# Altium footprint library AJ066-30-007-02_Temp and Humidity sensor.PcbLib: 11 footprints
Each footprint in its own frame and in the unit in brackets; x right, y up, seen from the top. Pads: shape width x height; smd on the part's side, far side on the other; paste and mask are expansions set on the pad; w line width, h text height; cw(c..) or ccw(c..) is an arc to the next point about the centre after c.
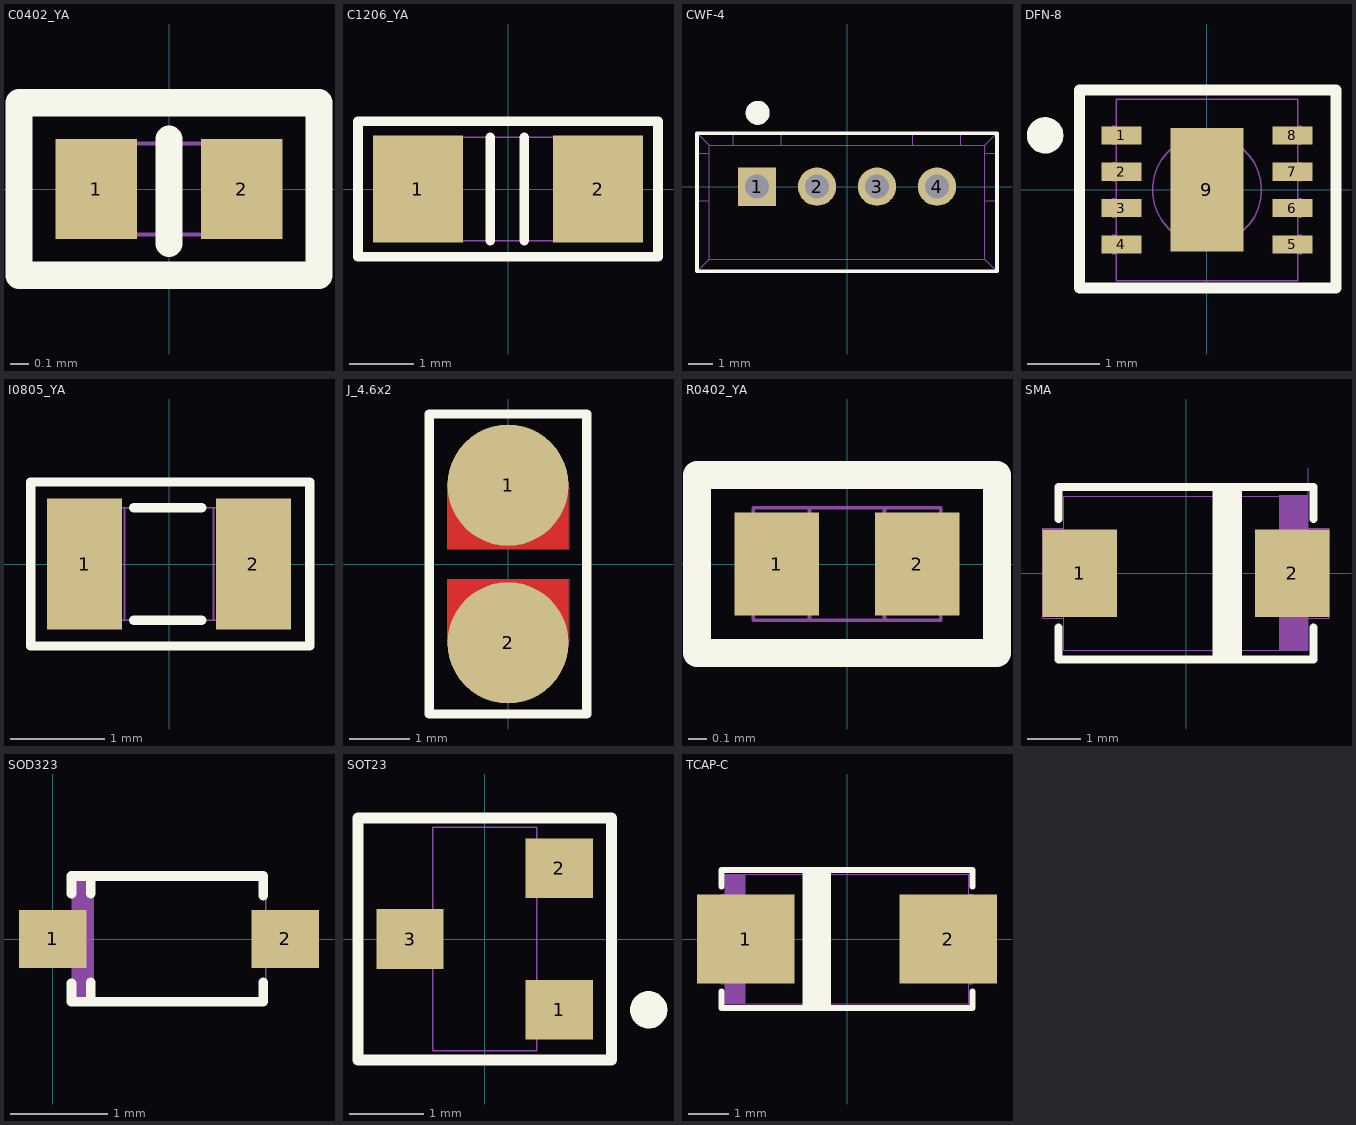
[diagram p0: the footprints below, top view; thin cyan lines are the x and y axes]

## C0402_YA [mm] "C0402_YA"
pads (2):
  rect 0.45x0.55 smd: 1(-0.4,0) 2(0.4,0)
Top Overlay:
  lines w0.15: 0,-0.3 0,0.275 ; -0.825,-0.475 -0.825,0.475 0.825,0.475 0.825,-0.475 -0.825,-0.475
Top Assembly:
  lines w0.02: -0.3,-0.25 -0.3,0.25 ; 0.3,-0.25 0.3,0.25 ; -0.5,-0.25 0.5,-0.25 0.5,0.25 -0.5,0.25 -0.5,-0.25
  text "'.Designator'" at -0.577,-0.259 h0.25
Mechanical 14:
  text "1" at -0.375,-0.08 h0.2
  text "2" at 0.375,-0.08 h0.2
3D body "User Library-SMD CAPACITOR0402.STEP": height 0.5, standoff 0, extent -0.5,-0.25 0.5,0.25

## C1206_YA [mil] "SC1206"
pads (2):
  rect 55x65 smd: 1(-55,0) 2(55,0)
Top Overlay:
  lines w5.91: -10.83,-31.5 -10.83,31.5 ; 9.84,-31.5 9.84,31.5 ; -91.54,-41.34 91.54,-41.34 91.54,41.34 -91.54,41.34 -91.54,-41.34
Top Assembly:
  lines w0.79: -31.5,-31.5 -31.5,31.5 ; 31.5,-31.5 31.5,31.5 ; -63.97,-31.49 62.02,-31.49 62.02,31.5 -63.97,31.5 -63.97,-31.49
  text "'.Designator'" at 64.27,14.04 h19.68
3D body "User Library-SMD CAPACITOR1206.STEP": height 31.1, standoff 0.39, extent -63.97,-31.49 62.02,31.5

## CWF-4 [mm]
height 5.7
pads (4):
  rect 1.6x1.6 hole 1: 1(-3.75,0)
  round 1.6 hole 1: 2(-1.25,0) 3(1.25,0) 4(3.75,0)
Top Overlay:
  circle w0.5: c-3.725,3.075 r0.25
  lines w0.15: -6.25,-3.525 6.25,-3.525 6.25,2.225 -6.25,2.225 -6.25,-3.525
Top Assembly:
  lines w0: -3.75,2.226 -3.124,2.226 ; 3.124,2.226 3.749,2.226
  lines w0.02: -6.251,-3.524 -6.25,-3.524 ; -6.251,2.226 -6.25,2.226 ; -6.25,-3.525 -6.25,2.225 ; -6.249,-0.6 -5.749,-0.6 ; -6.249,1.4 -5.749,1.4 ; -4.75,1.725 -4.75,2.225 ; -3.75,2.226 -3.124,2.226 ; -2.75,1.725 -2.75,2.225 ; 2.749,1.725 2.749,2.225 ; 3.124,2.226 3.749,2.226 ; 4.749,1.725 4.749,2.225 ; 5.749,-0.6 6.249,-0.6 ; 5.749,1.4 6.249,1.4 ; 6.249,-3.525 6.249,2.225 ; -6.25,-3.524 6.25,-3.524 ; -6.25,-3.524 -6.25,2.226 ; -6.25,-3.524 -5.75,-3.024 ; -6.25,-3.524 -6.25,2.226 ; -6.25,2.225 6.249,2.225 ; -6.25,2.225 -5.75,1.725 ; -5.75,-3.024 -5.75,1.725 ; -5.75,-3.024 5.749,-3.024 ; -5.75,1.725 -5.749,1.726 5.749,1.726 5.749,1.725 ; 5.749,-3.024 5.749,1.725 ; 5.749,-3.024 6.249,-3.524 ; 5.749,1.725 6.249,2.225 ; 6.25,-3.524 6.25,2.226 ; 6.249,-3.524 6.249,2.226 ; 6.249,-3.524 6.25,-3.524 ; 6.249,-3.524 6.249,2.226 ; -4.075,-0.326 -3.425,-0.326 -3.425,0.324 -4.075,0.324 -4.075,-0.326 ; -1.575,-0.326 -0.925,-0.326 -0.925,0.324 -1.575,0.324 -1.575,-0.326 ; 0.925,-0.326 1.575,-0.326 1.575,0.324 0.925,0.324 0.925,-0.326 ; 3.424,-0.326 3.424,0.324 4.074,0.324 4.074,-0.326 3.424,-0.326 ; 6.249,2.226 6.25,2.226
  text ".Designator" at -6.525,-1.35 h1
  text "1" at -5,-0.5 h1
3D body "DS1069-4 CWF-4.STEP": height 7, standoff -3.5, extent -6.25,-3.525 6.25,2.225

## DFN-8 [mm] "TSOP, 8-Leads, Body 3,1x3,1mm (max), Pitch 0,65mm, IPC High Density"
height 1.1
pads (9):
  rect 0.55x0.25 smd mask+0.075: 1(-1.175,0.75) 2(-1.175,0.25) 3(-1.175,-0.25) 4(-1.175,-0.75) 5(1.175,-0.75) 6(1.175,-0.25) 7(1.175,0.25) 8(1.175,0.75)
  rect 1x1.7 smd: 9(0,0)
Top Overlay:
  circle w0.25: c-2.225,0.75 r0.125
  lines w0.15: -1.75,-1.35 1.775,-1.35 1.775,1.375 -1.75,1.375 -1.75,-1.35
Top Assembly:
  circle w0.02: c0,0 r0.75
  lines w0.02: -1.25,-0.875 -1.3,-0.875 -1.3,-0.625 ; -1.25,-0.375 -1.3,-0.375 -1.3,-0.125 ; -1.25,0.125 -1.3,0.125 -1.3,0.375 ; -1.25,0.625 -1.3,0.625 -1.3,0.875 ; 1.25,-0.875 1.3,-0.875 1.3,-0.625 ; 1.25,-0.375 1.3,-0.375 1.3,-0.125 ; 1.25,0.125 1.3,0.125 1.3,0.375 ; 1.25,0.625 1.3,0.625 1.3,0.875 ; -1.3,-0.625 -1.25,-0.625 -1.3,-0.625 ; -1.3,-0.125 -1.25,-0.125 -1.3,-0.125 ; -1.3,0.375 -1.25,0.375 ; -1.3,0.375 -1.25,0.375 ; -1.3,0.375 -1.25,0.375 ; -1.3,0.875 -1.25,0.875 -1.3,0.875 ; 1.25,0.375 1.3,0.375 ; 1.25,0.375 1.3,0.375 ; 1.25,0.375 1.3,0.375 ; 1.3,-0.625 1.25,-0.625 1.3,-0.625 ; 1.3,-0.125 1.25,-0.125 1.3,-0.125 ; 1.3,0.875 1.25,0.875 1.3,0.875 ; -1.25,-1.25 -1.25,1.25 1.25,1.25 1.25,-1.25 -1.25,-1.25
  text "'.Designator'" at 1.666,0.546 h0.5
  text "1" at -1.63,0.62 h0.25
3D body "SHT3x.STEP": height 0.9, standoff -0.01, extent -1.25,-1.25 1.27,1.25

## I0805_YA [mm] "I0805_YA"
pads (2):
  rect 0.8x1.4 smd: 1(-0.9,0) 2(0.9,0)
Top Overlay:
  lines w0.1: -0.375,-0.6 0.35,-0.6 ; -0.375,0.6 0.35,0.6 ; -1.475,-0.875 1.5,-0.875 1.5,0.875 -1.475,0.875 -1.475,-0.875
Top Assembly:
  lines w0.02: -0.475,-0.6 -0.475,-0.575 -0.475,0.6 ; 0.475,-0.6 0.475,0.6 ; -1,-0.6 1,-0.6 1,0.6 -1,0.6 -1,-0.6
  text "'.Designator'" at 0.245,-0.7 h0.5
3D body "User Library-Chip InductorINDC2012X130N.STEP": height 1.3, standoff 0, extent -1,-0.6 1,0.6

## J_4.6x2 [mm] "1.0mm"
pads (2):
  round 2 smd paste-1.1 mask+0.05: 1(0,1.3) 2(0,-1.3)
Top Layer:
  rectangle: -1,0.25 1,1.35
  rectangle: -1,-1.35 1,-0.25
Top Overlay:
  lines w0.15: -1.3,-2.475 -1.3,2.475 1.3,2.475 1.3,-2.475 -1.275,-2.475
Top Assembly:
  lines w0.02: -1,1.275 cw(c0,1.275) 0.999,1.25 1,0.25 -1,0.25 -1,1.275 ; -1,-1.25 ccw(c0,-1.275) 1,-1.275 1,-0.25 -1,-0.25 -1,-1.25
  text "'.Designator'" at -1.106,0.216 h0.35

## R0402_YA [mm] "R0402_YA"
pads (2):
  rect 0.45x0.55 smd mask+0.075: 1(-0.375,0) 2(0.375,0)
Top Overlay:
  lines w0.15: -0.8,-0.475 -0.8,0.475 0.8,0.475 0.8,-0.475 -0.8,-0.475
Top Assembly:
  lines w0.02: -0.2,-0.3 -0.2,0.3 ; 0.2,-0.3 0.2,0.3 ; -0.5,-0.3 -0.5,0.3 0.5,0.3 0.5,-0.3 -0.5,-0.3
  text "'.Designator'" at -0.561,-0.227 h0.25
3D body "SW3dPS-0402 SMD Resistor.STEP": height 0.2, standoff 0, extent -0.5,-0.3 0.5,0.3

## SMA [mm] "Molded Diode, 2-Leads, Body 4,40x3,55mm, IPC Low Density"
height 2.4
pads (2):
  rect 1.4x1.65 smd: 1(-2,0) 2(2,0)
Top Overlay:
  rectangle: 0.5,-1.625 1.05,1.625
  lines w0.15: -2.4,-1.025 -2.4,-1.625 2.4,-1.625 2.4,-1.025 ; -2.4,1.025 -2.4,1.625 -1.925,1.625 2.4,1.625 2.4,1.025
Top Assembly:
  rectangle: 1.75,-1.45 2.3,1.475
  lines w0.02: -2.3,-0.85 -2.7,-0.85 -2.7,0.85 -2.3,0.85 ; 2.3,-0.85 2.7,-0.85 2.7,0.85 2.3,0.85 ; 2.3,1.975 2.3,-1.45 ; -2.3,-1.45 -2.3,1.45 ; -2.3,-1.45 2.3,-1.45 ; -2.3,-1.45 -2.3,1.45 ; -2.3,1.45 2.3,1.45 2.3,-1.45 2.3,-1.45
  text "'.Designator'" at 0.204,0.251 h0.5
3D body "SMAJ.STEP": height 2, standoff 0.01, extent -2.465,-1.27 2.465,1.27

## SOD323 [mm]
pads (2):
  rect 0.7x0.6 smd: 1(0,0) 2(2.4,0)
Top Overlay:
  lines w0.1: 0.192,-0.458 0.192,-0.65 2.175,-0.65 2.175,-0.45 ; 0.192,0.467 0.192,0.65 2.175,0.65 2.175,0.45 ; 0.392,-0.633 0.392,-0.45 ; 0.392,0.467 0.392,0.65
Top Assembly:
  rectangle: 0.2,-0.65 0.425,0.65
  lines w0.02: 0.2,-0.225 -0.1,-0.225 -0.1,0.225 0.2,0.225 ; 2.2,-0.225 2.5,-0.225 2.5,0.225 2.2,0.225 ; 0.2,-0.65 0.2,0.65 2.2,0.65 2.2,-0.65 0.2,-0.65
  text ".Designator" at 0.998,0.412 h0.5
3D body "SOD323-1.STEP": height 1.1, standoff 0, extent -0.1,-0.675 2.5,0.675

## SOT23 [mm] "SOT23, 6-Leads, Body 3,0x3,0mm (max), Pitch 0,95mm, IPC High Density"
height 1.45
pads (3):
  rect 0.9x0.8 smd: 1(1,-0.95) 2(1,0.95) 3(-1,0)
Top Overlay:
  circle w0.25: c2.2,-0.95 r0.125
  lines w0.15: -1.7,-1.625 -1.7,1.625 1.7,1.625 1.7,-1.625 -1.7,-1.625
Top Assembly:
  lines w0.02: -0.7,-0.25 -1.3,-0.25 -1.3,0.25 -0.7,0.25 ; 0.7,-1.2 1.3,-1.2 1.3,-0.7 0.7,-0.7 ; 0.7,0.7 1.3,0.7 1.3,1.2 0.7,1.2 ; -0.7,-1.5 0.7,-1.5 0.7,1.5 -0.7,1.5 -0.7,-1.5
  text "3" at -1.111,-0.12 h0.25
  text "2" at 0.943,0.802 h0.25
  text "1" at 0.976,-1.105 h0.25
  text "'.Designator'" at -0.56,-0.261 h0.5
3D body "SOT-23.STEP": height 1.05, standoff -0.05, extent -1.25,-1.5 1.25,1.5

## TCAP-C [mm]
height 3.1
pads (2):
  rect 2.4x2.2 smd: 1(-2.5,0) 2(2.5,0)
Top Overlay:
  rectangle: -1.1,-1.7 -0.4,1.7
  lines w0.15: -3.1,-1.3 -3.1,-1.7 3.1,-1.7 3.1,-1.3 ; -3.1,1.3 -3.1,1.7 3.1,1.7 3.1,1.3
Top Assembly:
  rectangle: -3,-1.6 -2.5,1.6
  lines w0.02: -3.003,1.6 3,1.6 3,-1.6 -3,-1.6 -3,1.6 ; -3,-1.1 -3.1,-1.1 -3.1,1.1 -3,1.1 ; 3,-1.1 3.1,-1.1 3.1,1.1 3,1.1
  text "'.Designator'" at -0.524,-0.161 h0.75
3D body "CAP_TANT_6032-28_y.STEP": height 2.8, standoff 0, extent -3.15,-1.75 3.15,1.75